# Altium footprint library EsteemPCB_SOM_Course_pcblib.PcbLib: 80 footprints (part 5 of 5)
Each footprint in its own frame and in the unit in brackets; x right, y up, seen from the top. Pads: shape width x height; smd on the part's side, far side on the other; paste and mask are expansions set on the pad; w line width, h text height; cw(c..) or ccw(c..) is an arc to the next point about the centre after c.
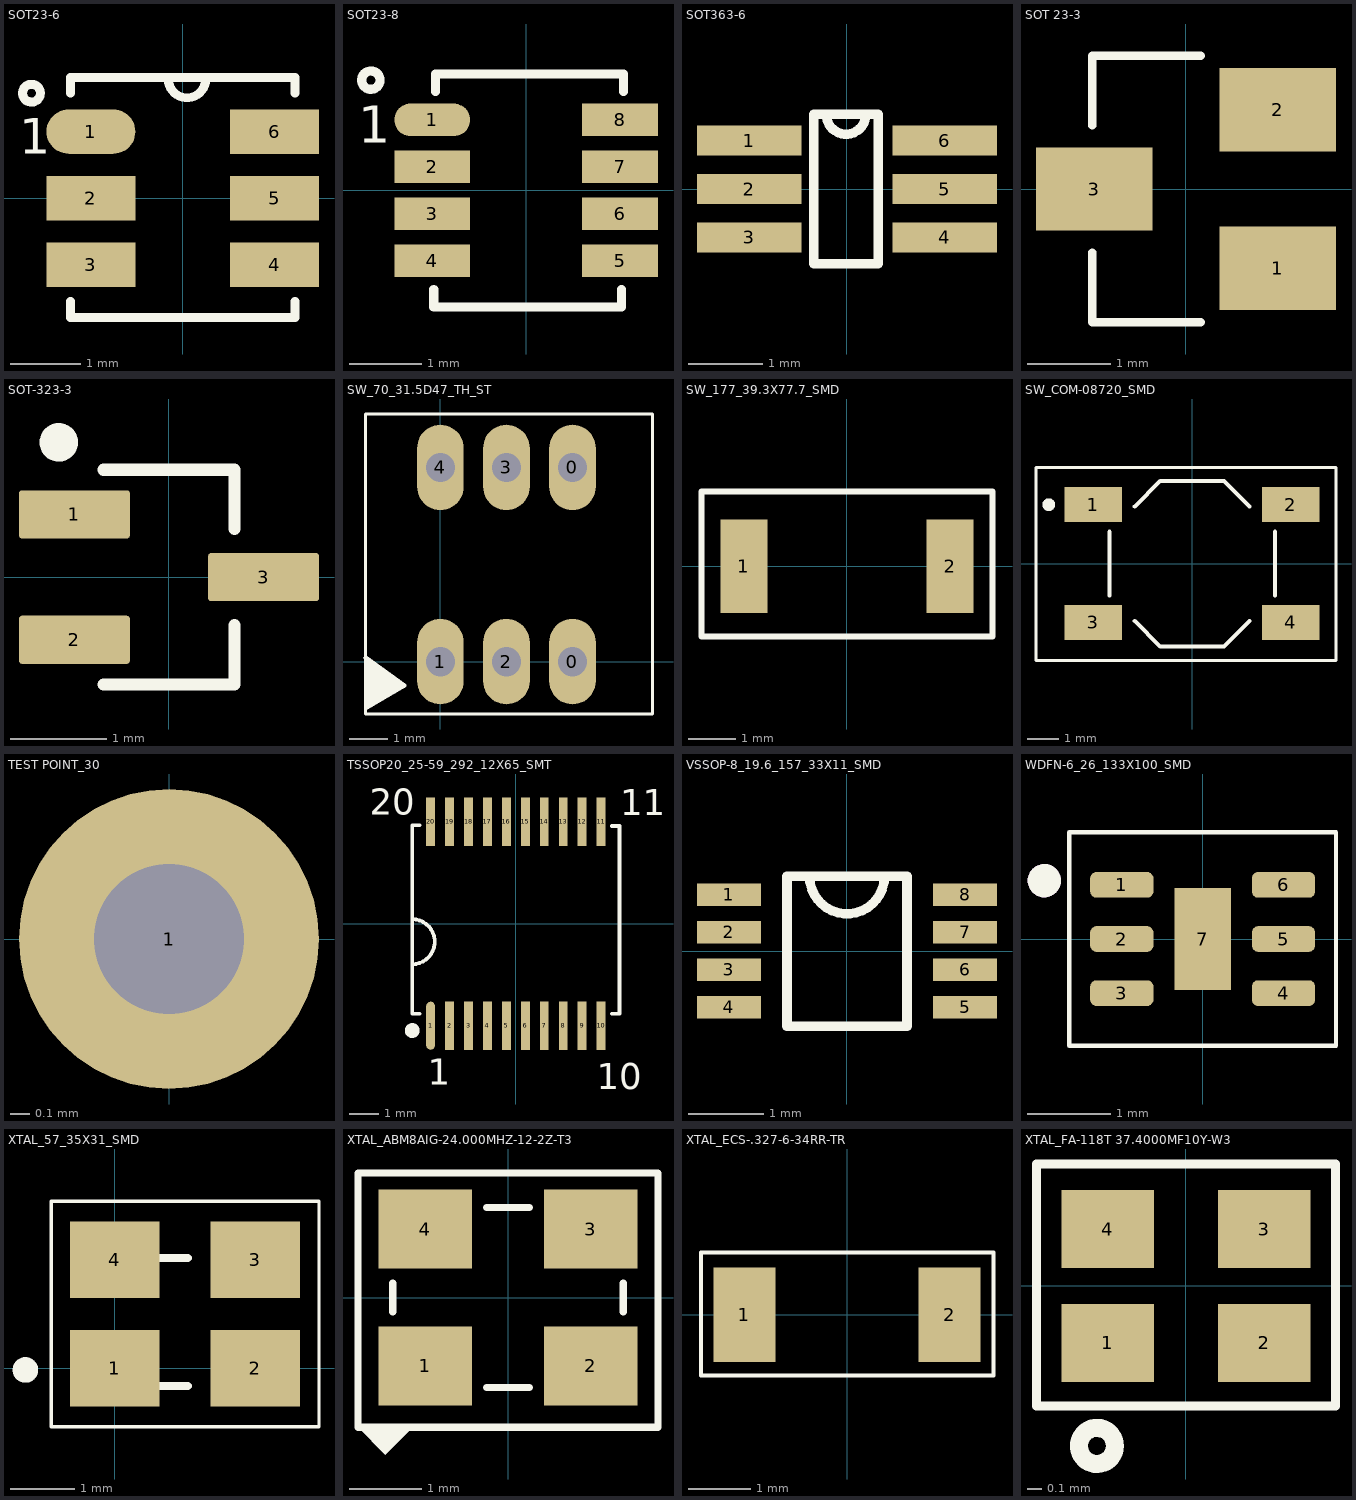
[diagram p4: the footprints below, top view; thin cyan lines are the x and y axes]

## SOT23-6 [mm] "CASE: SOT"
height 1.45
pads (6):
  oval 1.27x0.635 smd mask+0.076: 1(-1.31,0.95)
  rect 1.27x0.635 smd mask+0.076: 2(-1.31,0) 3(-1.31,-0.95) 4(1.31,-0.95) 5(1.31,0) 6(1.31,0.95)
Top Overlay:
  circle w0.127: c-2.159,1.499 r0.127
  lines w0.127: -1.6,-1.473 -1.6,-1.704 1.6,-1.704 1.6,-1.473 ; -1.6,1.499 -1.6,1.725 1.6,1.725 1.6,1.499 ; -0.206,1.699 ccw(c0.061,1.699) 0.328,1.699
  text "1" at -2.337,0.635 h0.51
3D body "User Library-SOT-23-6-1.STEP": height 1.41, standoff -0.05, extent -1.5,-1.5 1.5,1.5

## SOT23-8 [mm] "Case-SOT"
height 1.45
pads (8):
  oval 1.05x0.45 smd mask+0.076: 1(-1.3,0.975)
  rect 1.05x0.45 smd mask+0.076: 2(-1.3,0.325) 3(-1.3,-0.325) 4(-1.3,-0.975) 5(1.3,-0.975) 6(1.3,-0.325) 7(1.3,0.325) 8(1.3,0.975)
Top Overlay:
  circle w0.127: c-2.149,1.524 r0.127
  lines w0.127: -1.279,-1.372 -1.279,-1.616 1.321,-1.616 1.321,-1.372 ; -1.254,1.366 -1.254,1.61 1.346,1.61 1.346,1.366
  text "1" at -2.327,0.66 h0.51
3D body "User Library-SOT-23-8-Thin.step": height 1.1, standoff 0, extent -1.454,-1.465 1.496,1.485

## SOT363-6 [mm] "SOT363"
height 1.1
pads (6):
  rect 1.4x0.4 smd mask+0.076: 1(-1.312,0.65) 2(-1.312,0) 3(-1.312,-0.65) 4(1.313,-0.65) 5(1.313,0) 6(1.313,0.65)
Top Overlay:
  lines w0.127: -0.277,1 ccw(c-0.012,1) 0.252,1 ; -0.444,-1 0.419,-1 0.419,1 -0.444,1 -0.444,-1
3D body "74AUP2G3404GW,125.stp": height 1.1, standoff 0, extent -1.062,-1 1.038,1

## SOT 23-3 [mm] "Case: SOT23"
height 1.1
pads (3):
  rect 1.4x1 smd paste+0 mask+0.076: 1(1.1,-0.95) 2(1.1,0.95) 3(-1.1,0)
Top Overlay:
  lines w0.1: -1.125,-0.763 -1.125,-1.6 0.175,-1.6 ; -1.125,0.763 -1.125,1.6 0.175,1.6
3D body "SOT23_TO-236AA.STEP": height 1.3, standoff 0, extent -1.5,-1.5 1.5,1.5

## SOT-323-3 [mm] "SOT Package"
height 1
pads (3):
  rrect13% 1.15x0.5 smd: 1(-0.98,0.65) 2(-0.98,-0.65) 3(0.98,0)
Top Overlay:
  circle w0.2: c-1.143,1.397 r0.1
  lines w0.127: -0.68,-1.114 0.68,-1.114 0.68,-0.5 ; -0.68,1.114 0.68,1.114 0.68,0.5
3D body "User Library-SOT323 (SC70-3)-1.STEP": height 1.11, standoff 0.01, extent -1.122,-1.1 1.123,1.1

## SW_70_31.5D47_TH_ST [mm] "CASE: TH"
height 12
pads (6):
  oval 1.2x2.2 hole 0.75: 0(3.4,0) 0(3.4,5) 1(0,0) 2(1.7,0) 3(1.7,5) 4(0,5)
Top Overlay:
  region: -1.981,0.102 -1.93,0.051 -1.93,-1.143 -1.524,-0.965 -0.965,-0.584
  lines w0.076: -1.93,-1.346 5.461,-1.346 5.461,6.375 -1.93,6.375 -1.93,-1.346
  lines w0.127: -1.915,0.097 -0.94,-0.61 -1.902,-1.173
3D body "Toggle Button (7 x 7 x 12mm) - Latching.stp": height 13.54, standoff -3.23, extent -1.74,-0.914 5.296,5.995

## SW_177_39.3X77.7_SMD [mm] "SMD Switch"
pads (2):
  rect 1x2 smd: 1(-2.2,0) 2(2.2,0)
Top Overlay:
  lines w0.127: -3.1,-1.5 -3.1,0 -3.1,1.6 3.1,1.6 3.1,-1.5 -3.1,-1.5
3D body "b3u-1000p.stp": height 1.61, standoff 0.01, extent -2.1,-1.2 1.9,1.3

## SW_COM-08720_SMD [mm] "Switch"
pads (4):
  rect 1.8x1.1 smd: 1(-3.1,1.85) 2(3.1,1.85) 3(-3.1,-1.85) 4(3.1,-1.85)
Top Overlay:
  lines w0.1: -4.902,-3.048 -4.902,3.023 4.521,3.023 4.521,-3.048 -4.902,-3.048
  lines w0.127: -2.6,-1 -2.6,1 ; -1.8,-1.8 -1,-2.6 1,-2.6 1.8,-1.8 ; -1.8,1.8 -1,2.6 1,2.6 1.8,1.8 ; 2.6,-1 2.6,1
  lines w0.2: -4.5,1.75 ccw(c-4.5,1.85) -4.5,1.95 ccw(c-4.5,1.85) -4.5,1.75

## TEST POINT_30 [mil]
pads (1):
  round 60 hole 30 mask+10: 1(0,0)

## TSSOP20_25-59_292_12X65_SMT [mil]
pads (20):
  oval 12x65 smd mask+3: 1(-115.16,-137.8)
  rect 12x65 smd mask+3: 2(-89.56,-137.8) 3(-63.97,-137.8) 4(-38.38,-137.8) 5(-12.8,-137.8) 6(12.8,-137.8) 7(38.38,-137.8) 8(63.98,-137.8) 9(89.56,-137.8) 10(115.16,-137.8) 11(115.16,137.8) 12(89.56,137.8) 13(63.98,137.8) 14(38.38,137.8) 15(12.8,137.8) 16(-12.8,137.8) 17(-38.38,137.8) 18(-63.97,137.8) 19(-89.56,137.8) 20(-115.16,137.8)
Top Overlay:
  circle w10: c-140,-144.3 r5
  lines w5: -140,-54.71 ccw(c-140,-24.3) -140,6.12 ; -130.01,-121.8 -140,-121.8 -140,132.88 -130,132.88 ; 130,-121.8 140,-121.8 140,132.14 130.01,132.14
  text "20" at -197.45,147.05 h35
  text "11" at 141.23,146.45 h35
  text "10" at 109,-223.3 h35
  text "1" at -119,-217.3 h35
3D body "TSSOP-20.STEP": height 47.24, standoff 0, extent -130,-129.76 129.84,128.11

## VSSOP-8_19.6_157_33X11_SMD [mm] "VSSOP"
height 0.9
pads (8):
  rect 0.85x0.3 smd mask+0.076: 1(-1.575,0.75) 2(-1.575,0.25) 3(-1.575,-0.25) 4(-1.575,-0.75) 5(1.575,-0.75) 6(1.575,-0.25) 7(1.575,0.25) 8(1.575,0.75)
Top Overlay:
  lines w0.127: -0.5,1 ccw(c0,1) 0.5,1 ; -0.8,-1 0.8,-1 0.8,1 -0.8,1 -0.8,-1
3D body "74AUP2G86DC,125.stp": height 1, standoff 0, extent -1.55,-1 1.55,1

## WDFN-6_26_133X100_SMD [mm] "SMD Package"
pads (7):
  rrect50% 0.76x0.31 smd: 1(-0.97,0.65) 2(-0.97,0) 3(-0.97,-0.65) 4(0.97,-0.65) 5(0.97,0) 6(0.97,0.65)
  rect 0.675x1.225 smd paste-2: 7(0,0)
Top Overlay:
  circle w0.2: c-1.9,0.7 r0.1
  lines w0.05: -1.6,-1.28 -1.28,-1.28 1.28,-1.28 1.6,-1.28 1.6,1.28 1.28,1.28 -1.28,1.28 -1.6,1.28 -1.6,-1.28
Top Paste:
  region: 0.212,-0.487 -0.212,-0.487 -0.212,0.487 0.212,0.487
Mechanical 13:
  circle w0.2: c-1.9,0.7 r0.1
3D body "step_temp.STEP": height 0.8, standoff 0, extent -1,-1 1,1

## XTAL_57_35X31_SMD [mm] "Crystal"
pads (4):
  rect 1.4x1.2 smd: 1(0,0) 2(2.2,0) 3(2.2,1.7) 4(0,1.7)
Top Overlay:
  circle w0.2: c-1.397,-0.025 r0.1
  lines w0.05: -0.991,-0.914 3.2,-0.914 3.2,2.616 -0.991,2.616 -0.991,-0.914
  lines w0.127: 0.704,-0.275 1.146,-0.275 ; 0.704,1.725 1.146,1.725

## XTAL_ABM8AIG-24.000MHZ-12-2Z-T3 [mm] "Crystal"
pads (4):
  rect 1.3x1.1 smd: 1(-1.15,-0.95) 2(1.15,-0.95) 3(1.15,0.95) 4(-1.15,0.95)
Top Overlay:
  region: -2.083,-1.8 -1.702,-2.181 -1.702,-2.184 -1.321,-1.803 -1.295,-1.803
  lines w0.1: -1.6,-0.2 -1.6,0.2 ; -0.3,-1.25 0.3,-1.25 ; -0.3,1.25 0.3,1.25 ; 1.6,-0.2 1.6,0.2 ; -2.083,-1.8 -2.083,1.727 2.083,1.727 2.083,-1.8 -2.083,-1.8
3D body "User Library-XRCHA16M000F0A01R0.step": height 0.81, standoff 0.01, extent -1.25,-1 1.25,1

## XTAL_ECS-.327-6-34RR-TR [mm] "Crystal"
pads (2):
  rect 1x1.524 smd: 1(-1.648,0) 2(1.648,0)
Top Overlay:
  lines w0.064: -2.348,-0.975 2.352,-0.975 2.352,1 -2.348,1 -2.348,-0.975
3D body: height 0.9, standoff 0.08, extent -1.648,-0.75 1.852,0.75

## XTAL_FA-118T 37.4000MF10Y-W3 [mm] "Crystal"
pads (4):
  rect 0.65x0.55 smd: 1(-0.55,-0.4) 2(0.55,-0.4) 3(0.55,0.4) 4(-0.55,0.4)
Top Overlay:
  circle w0.127: c-0.626,-1.124 r0.127
  lines w0.064: -1.05,-0.845 1.05,-0.845 1.05,0.857 -1.05,0.857 -1.05,-0.845
3D body: height 0.5, standoff 0.05, extent -0.775,-0.8 0.775,0.8